# EAGLE library part TCAN1162-Q1 (library toyotune)
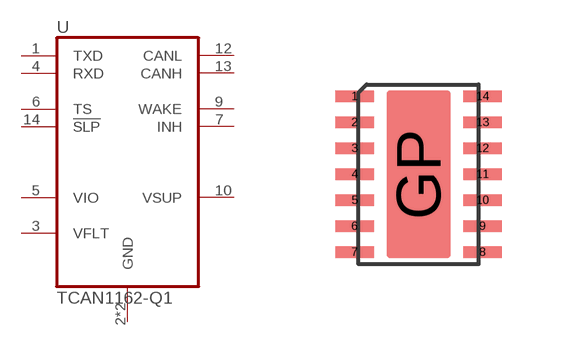
[diagram p64: symbol with the pads of VSON14; footprint VSON14]

Designator prefix -

## TCAN1162-Q1  [VSON14]
1  TXD  out
2  GND  pwr
3  VFLT  pwr
4  RXD  out
5  VIO  pwr
6  TS  in
7  INH  in
9  WAKE  out
10  VSUP  pwr
12  CANL  in
13  CANH  in
14  !SLP  in
GP  GND  pwr

## Footprint VSON14 (pad centres in mm)
smd 1 x 0.3: 1 -1.6,1.95; 2 -1.6,1.3; 3 -1.6,0.65; 4 -1.6,0; 5 -1.6,-0.65; 6 -1.6,-1.3; 7 -1.6,-1.95; 8 1.6,-1.95; 9 1.6,-1.3; 10 1.6,-0.65; 11 1.6,0; 12 1.6,0.65; 13 1.6,1.3; 14 1.6,1.95
smd 1.6 x 4.2: GP 0,0